# EAGLE library part ADMP421 (library SparkFun)
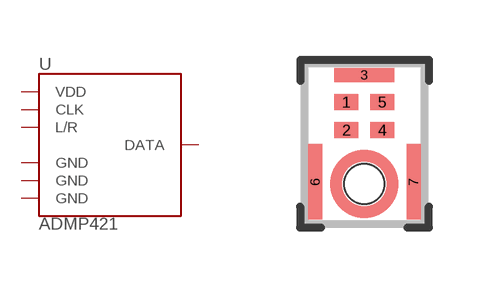
[diagram p310: symbol with the pads of ADMP421; footprint ADMP421]

Designator prefix -

## ADMP421  [ADMP421]
1  CLK
2  L/R
3  GND
4  VDD
5  DATA
6  GND
7  GND

## Footprint ADMP421 (pad centres in mm)
smd 0.6 x 0.4: 1 -0.45,2.05; 2 -0.45,1.35; 4 0.45,1.35; 5 0.45,2.05
smd 1.5 x 0.35: 3 0,2.73
smd 0.35 x 1.9: 6 -1.23,0.06; 7 1.23,0.06
hole 1 at 0,0